# Altium integrated library Magnetics.IntLib: 4 symbols
Pins are listed as number, name and electrical type; pins without a type are passive.

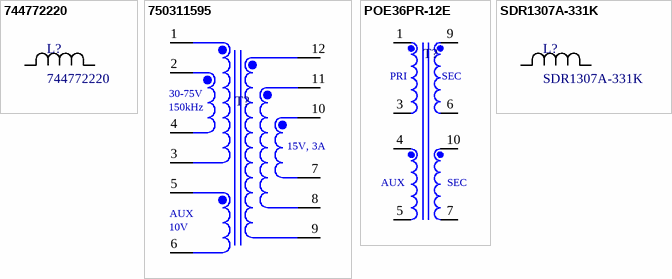
[diagram p0: symbols 744772220 to SDR1307A-331K]

## 744772220
designator L?
22 μH ±10% Ferrite Radial Inductor, 2.3A Idc, 55mΩ; Manufacturer_Part_Number: 13R332C; Vendor: Murata; Built_By: EMA_UL_Team; SourceLibrary: Murata_2012-11-05_1300R; Type: DEV; Copyright: Copyright (C) 2018 Accelerated Designs. All rights reserved; RefDes: RefDes
footprint 744772220 (5.08 dip)
pins: 1, 2

## 750311595
designator T?
WE-FB Flyback Transformer suitable for LT3748, SMT, EFD25, 30-75Vin, 15Vout, 45W; Manufacturer Part Number: 750311595; Manufacturer: Wurth Elektronik; Leakage Inductance: 0.2uH; Insulation Test Voltage: 1500VAC; Inductance: 12uH; Turns Ratio: 2:1; Saturation Current: 16A; Input Voltage: 30-75V; Output Current: 3A; Output Voltage: 15V; ComponentLink1Description: Manufacturer; ComponentLink1URL: http://www.we-online.de; ComponentLink2Description: Datasheet; ComponentLink2URL: https://www.we-online.com/catalog/datasheet/750311595.pdf; Published Date: April 2020; Packaging: Tape and Reel; Operating Temperature: -40 to +125degC; Mounting Technology: SMT; Size: EFD25; IC Reference: LT3748; Output Power: 45W
footprint WE-FB_EFD25(MY-MAXI) (Flyback Transformer, size EFD25)
pins: 1, 2, 3, 4, 5, 6, 7, 8, 9, 10, 11, 12
text: 150kHz; 15V, 3A; AUX; 10V

## POE36PR-12E
designator T?
WE-FB Flyback Transformer suitable for LT3748, SMT, EFD25, 30-75Vin, 15Vout, 45W; Manufacturer Part Number: 750311595; Manufacturer: Wurth Elektronik; Leakage Inductance: 0.2uH; Insulation Test Voltage: 1500VAC; Inductance: 12uH; Turns Ratio: 2:1; Saturation Current: 16A; Input Voltage: 30-75V; Output Current: 3A; Output Voltage: 15V; ComponentLink1Description: Manufacturer; ComponentLink1URL: http://www.we-online.de; ComponentLink2Description: Datasheet; ComponentLink2URL: https://www.we-online.com/catalog/datasheet/750311595.pdf; Published Date: April 2020; Packaging: Tape and Reel; Operating Temperature: -40 to +125degC; Mounting Technology: SMT; Size: EFD25; IC Reference: LT3748; Output Power: 45W
footprint POE36PR-12E
pins: 1, 3, 4, 5, 6, 7, 9, 10
text: PRI; SEC; AUX

## SDR1307A-331K
designator L?
330uH 10% SMD , 1.6A Idc, 520 mΩ (Da Verificare); Manufacturer_Part_Number: 13R332C; Vendor: Murata; Built_By: EMA_UL_Team; SourceLibrary: Murata_2012-11-05_1300R; Type: DEV; Copyright: Copyright (C) 2018 Accelerated Designs. All rights reserved; RefDes: RefDes
footprint 744772220 (5.08 dip)
pins: 1, 2